# EAGLE library part POLTB6612 (library untitled)
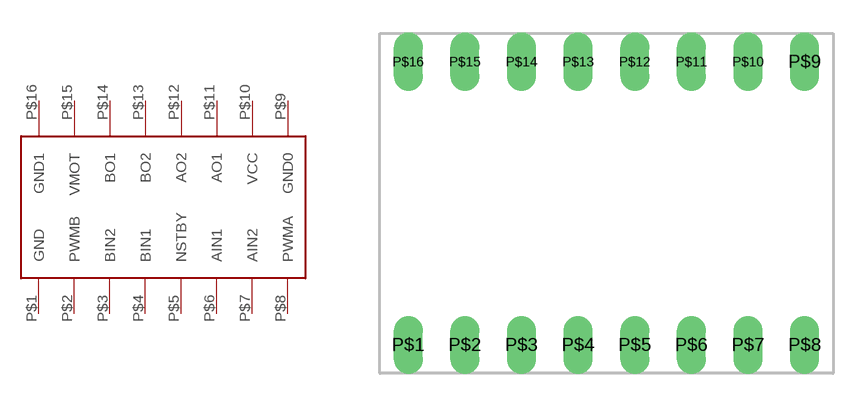
[diagram p23: symbol with the pads of POLTB6612; footprint POLTB6612]

Designator prefix -

## POLTB6612  [POLTB6612]
P$1  GND
P$2  PWMB
P$3  BIN2
P$4  BIN1
P$5  NSTBY
P$6  AIN1
P$7  AIN2
P$8  PWMA
P$9  GND0
P$10  VCC
P$11  AO1
P$12  AO2
P$13  BO2
P$14  BO1
P$15  VMOT
P$16  GND1

## Footprint POLTB6612 (pad centres in mm)
drill 0.8 long: P$1 -8.89,-6.35; P$2 -6.35,-6.35; P$3 -3.81,-6.35; P$4 -1.27,-6.35; P$5 1.27,-6.35; P$6 3.81,-6.35; P$7 6.35,-6.35; P$8 8.89,-6.35; P$9 8.89,6.35; P$10 6.35,6.35; P$11 3.81,6.35; P$12 1.27,6.35; P$13 -1.27,6.35; P$14 -3.81,6.35; P$15 -6.35,6.35; P$16 -8.89,6.35